# EAGLE library part 71-12SP-1D (library switch-grayhill)
Rotary Switch Grayhill 71 Series, 12 Pos, 1 Pole, 1 Deck
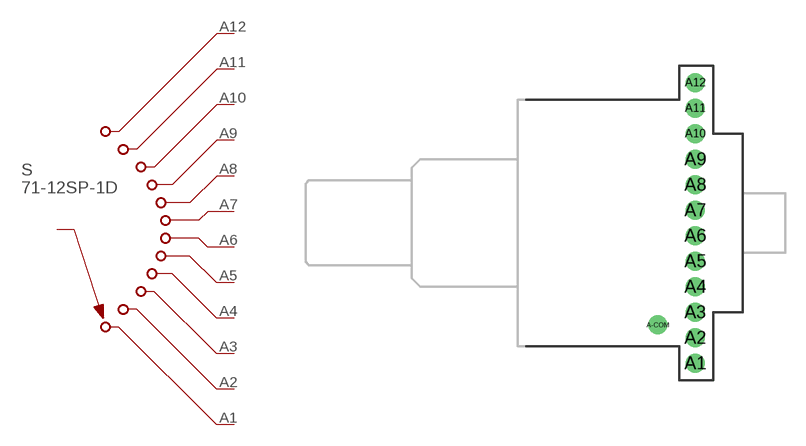
[diagram p6: symbol with the pads of 71-12-1D-1C; footprint 71-12-1D-1C]

Designator prefix S

## 71-12SP-1D  [71-12-1D-1C]
A1  1  pas
A2  2  pas
A3  3  pas
A4  4  pas
A5  5  pas
A6  6  pas
A7  7  pas
A8  8  pas
A9  9  pas
A10  10  pas
A11  11  pas
A12  12  pas
A-COM  COM1  pas

## Footprint 71-12-1D-1C (pad centres in mm)
Grayhill 71 Series
drill 0.813 pad 1.422: A1 2.794,-10.477; A2 2.794,-8.572; A3 2.794,-6.668; A4 2.794,-4.763; A5 2.794,-2.857; A6 2.794,-0.953; A7 2.794,0.953; A8 2.794,2.857; A9 2.794,4.763; A10 2.794,6.668; A11 2.794,8.572; A12 2.794,10.477; A-COM 0,-7.62